# Altium schematic symbol library LTC3200.Schlib: 1 symbol
Pins are listed as number, name and electrical type; pins without a type are passive.

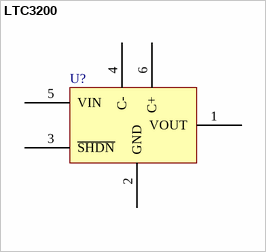
[diagram p0: symbol LTC3200]

## LTC3200
designator U?
pins: 1 VOUT, 2 GND, 3 ~{SHDN}, 4 C-, 5 VIN, 6 C+